# Altium footprint library MODULE_ZC142200.PcbLib: 1 footprints
Each footprint in its own frame and in the unit in brackets; x right, y up, seen from the top. Pads: shape width x height; smd on the part's side, far side on the other; paste and mask are expansions set on the pad; w line width, h text height; cw(c..) or ccw(c..) is an arc to the next point about the centre after c.
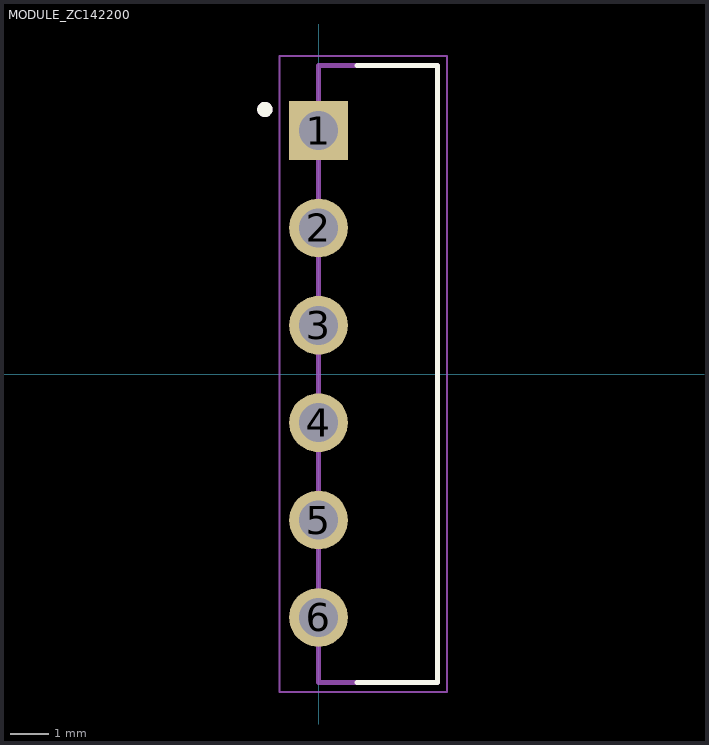
[diagram p0: the footprint, top view; thin cyan lines are the x and y axes]

## MODULE_ZC142200 [mm]
height 37.5
pads (6):
  rect 1.53x1.53 / inner round 1.53 / far side rect 1.53x1.53 hole 1.02: 1(0,6.35)
  round 1.53 hole 1.02: 2(0,3.81) 3(0,1.27) 4(0,-1.27) 5(0,-3.81) 6(0,-6.35)
Top Overlay:
  circle w0.2: c-1.4,6.9 r0.1
  lines w0.127: 1,-8.05 3.1,-8.05 3.1,8.05 1,8.05
Assembly Top:
  circle w0.2: c-1.4,6.9 r0.1
  lines w0.127: 0,-8.05 0,8.05 3.1,8.05 3.1,-8.05 0,-8.05
Courtyard Top:
  lines w0.05: -1.02,-8.3 3.35,-8.3 3.35,8.3 -1.02,8.3 -1.02,-8.3
3D body "step_temp.STEP": height 37, standoff -8, extent -0.31,-7.5 3.1,7.5